# Altium footprint library TI-DRV-6.PcbLib: 1 footprints
Each footprint in its own frame and in the unit in brackets; x right, y up, seen from the top. Pads: shape width x height; smd on the part's side, far side on the other; paste and mask are expansions set on the pad; w line width, h text height; cw(c..) or ccw(c..) is an arc to the next point about the centre after c.
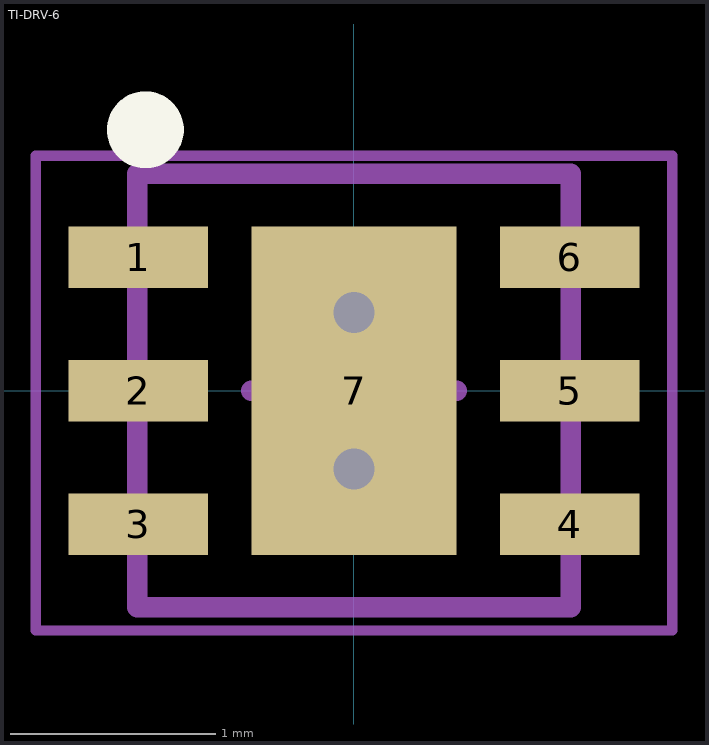
[diagram p0: the footprint, top view; thin cyan lines are the x and y axes]

## TI-DRV-6 [mm] "Double Row QFN, 12-Leads, Body 2.00x2.00mm, Pitch 0.65mm, Thermal Pad 1.00x1.00mm, IPC High Density"
height 0.8
pads (7):
  rect 0.68x0.3 smd: 1(-1.05,0.65) 2(-1.05,0) 3(-1.05,-0.65) 4(1.05,-0.65) 5(1.05,0) 6(1.05,0.65)
  rect 1x1.6 smd: 7(0,0)
via 0,0.381 diameter 0.5 hole 0.2
via 0,-0.381 diameter 0.5 hole 0.2
Top Overlay:
  circle w0.254: c-1.016,1.27 r0.06
Mechanical 13:
  lines w0.1: -1.055,-1.055 1.055,-1.055 1.055,1.055 -1.055,1.055 -1.055,-1.055
Mechanical 15:
  lines w0.05: -1.549,-1.168 -1.549,1.143 1.549,1.143 1.549,-1.168 -1.549,-1.168
  lines w0.1: -0.5,0 0.5,0 ; 0,-0.5 0,0.5
3D body: height 0.75, standoff 0, extent -1.001,-1 1.001,1